# Altium schematic symbol library DS1040-01RN.SchLib: 1 symbol
Pins are listed as number, name and electrical type; pins without a type are passive.

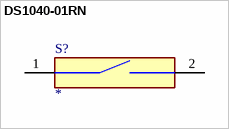
[diagram p0: symbol DS1040-01RN]

## DS1040-01RN
designator S?
Switch; Manufacturer_Name: Connfly; Manufacturer_Part_Number: DS1040-04RN; Datasheet Link: https://static.chipdip.ru/lib/974/DOC000974669.pdf; Height: 7.6mm
footprint DS1040-01RN
pins: 1, 2